# EAGLE library part PIC24FJ*GA006 (library microchip)
64/80/100-Pin General Purpose, 16-Bit Flash Microcontrollers Source: http://ww1.microchip.com/downloads/en/DeviceDoc/39747d.pdf
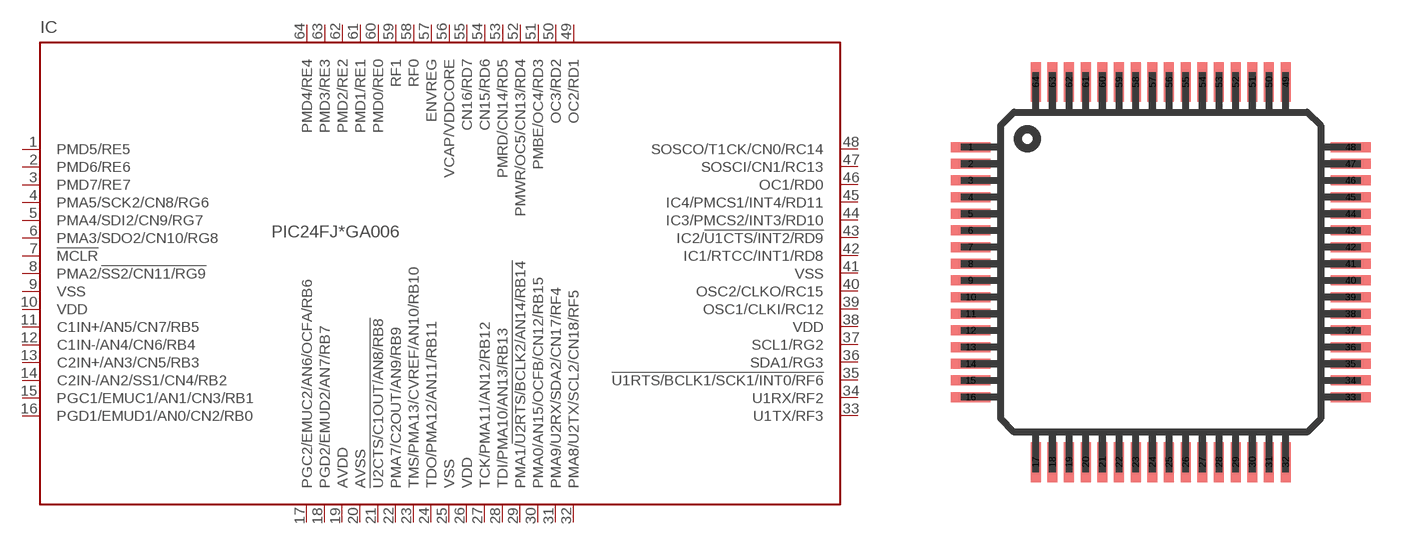
[diagram p62: symbol with the pads of TQFP64-10X10; footprint TQFP64-10X10]

Designator prefix IC

## PIC24FJ128GA006 (MF: MICROCHIP; MPN: PIC24FJ128GA006-I/PT; OC_FARNELL: 1146519; OC_NEWARK: 56K7337), PIC24FJ64GA006 (MPN: PIC24FJ64GA006-I/PT; OC_FARNELL: 1146524; OC_NEWARK: 56K7343), PIC24FJ69GA006 (OC_FARNELL: unknown; OC_NEWARK: unknown)  [TQFP64-10X10]
1  PMD5/RE5
2  PMD6/RE6
3  PMD7/RE7
4  PMA5/SCK2/CN8/RG6
5  PMA4/SDI2/CN9/RG7
6  PMA3/SDO2/CN10/RG8
7  !MCLR
8  PMA2/!SS2/CN11/RG9
9  VSS  pwr
10  VDD  pwr
11  C1IN+/AN5/CN7/RB5
12  C1IN-/AN4/CN6/RB4
13  C2IN+/AN3/CN5/RB3
14  C2IN-/AN2/SS1/CN4/RB2
15  PGC1/EMUC1/AN1/CN3/RB1
16  PGD1/EMUD1/AN0/CN2/RB0
17  PGC2/EMUC2/AN6/OCFA/RB6
18  PGD2/EMUD2/AN7/RB7
19  AVDD  pwr
20  AVSS  pwr
21  !U2CTS/C1OUT/AN8/RB8
22  PMA7/C2OUT/AN9/RB9
23  TMS/PMA13/CVREF/AN10/RB10
24  TDO/PMA12/AN11/RB11
25  VSS  pwr
26  VDD  pwr
27  TCK/PMA11/AN12/RB12
28  TDI/PMA10/AN13/RB13
29  PMA1/!U2RTS/BCLK2/AN14/RB14
30  PMA0/AN15/OCFB/CN12/RB15
31  PMA9/U2RX/SDA2/CN17/RF4
32  PMA8/U2TX/SCL2/CN18/RF5
33  U1TX/RF3
34  U1RX/RF2
35  !U1RTS/BCLK1/SCK1/INT0/RF6
36  SDA1/RG3
37  SCL1/RG2
38  VDD  pwr
39  OSC1/CLKI/RC12
40  OSC2/CLKO/RC15
41  VSS  pwr
42  IC1/RTCC/INT1/RD8
43  IC2/!U1CTS/INT2/RD9
44  IC3/PMCS2/INT3/RD10
45  IC4/PMCS1/INT4/RD11
46  OC1/RD0
47  SOSCI/CN1/RC13
48  SOSCO/T1CK/CN0/RC14
49  OC2/RD1
50  OC3/RD2
51  PMBE/OC4/RD3
52  PMWR/OC5/CN13/RD4
53  PMRD/CN14/RD5
54  CN15/RD6
55  CN16/RD7
56  VCAP/VDDCORE
57  ENVREG
58  RF0
59  RF1
60  PMD0/RE0
61  PMD1/RE1
62  PMD2/RE2
63  PMD3/RE3
64  PMD4/RE4

## Footprint TQFP64-10X10 (pad centres in mm)
Thin Quad Flat Pack package type TQ
smd 1.2 x 0.3: 1 -5.7,3.75; 2 -5.7,3.25; 3 -5.7,2.75; 4 -5.7,2.25; 5 -5.7,1.75; 6 -5.7,1.25; 7 -5.7,0.75; 8 -5.7,0.25; 9 -5.7,-0.25; 10 -5.7,-0.75; 11 -5.7,-1.25; 12 -5.7,-1.75; 13 -5.7,-2.25; 14 -5.7,-2.75; 15 -5.7,-3.25; 16 -5.7,-3.75; 33 5.7,-3.75; 34 5.7,-3.25; 35 5.7,-2.75; 36 5.7,-2.25; 37 5.7,-1.75; 38 5.7,-1.25; 39 5.7,-0.75; 40 5.7,-0.25; 41 5.7,0.25; 42 5.7,0.75; 43 5.7,1.25; 44 5.7,1.75; 45 5.7,2.25; 46 5.7,2.75; 47 5.7,3.25; 48 5.7,3.75
smd 0.3 x 1.2: 17 -3.75,-5.7; 18 -3.25,-5.7; 19 -2.75,-5.7; 20 -2.25,-5.7; 21 -1.75,-5.7; 22 -1.25,-5.7; 23 -0.75,-5.7; 24 -0.25,-5.7; 25 0.25,-5.7; 26 0.75,-5.7; 27 1.25,-5.7; 28 1.75,-5.7; 29 2.25,-5.7; 30 2.75,-5.7; 31 3.25,-5.7; 32 3.75,-5.7; 49 3.75,5.7; 50 3.25,5.7; 51 2.75,5.7; 52 2.25,5.7; 53 1.75,5.7; 54 1.25,5.7; 55 0.75,5.7; 56 0.25,5.7; 57 -0.25,5.7; 58 -0.75,5.7; 59 -1.25,5.7; 60 -1.75,5.7; 61 -2.25,5.7; 62 -2.75,5.7; 63 -3.25,5.7; 64 -3.75,5.7